# EAGLE library part ADA4096-4ACPZ-R7 (library ada4096-4)
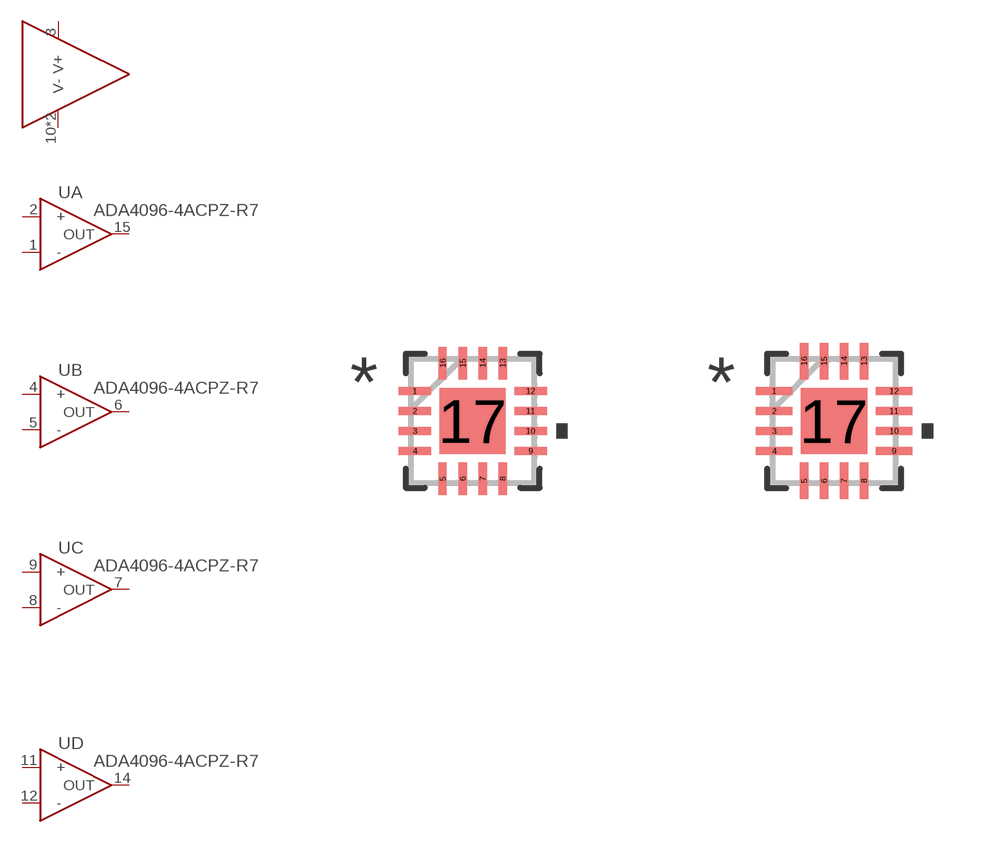
[diagram p0: symbol with the pads of CP_16_27; footprints CP_16_27, CP_16_27-M]

Designator prefix U; gates A=OP_AMP B=OP_AMP C=OP_AMP D=OP_AMP SUPPLY=OP_AMP_SUPPLY

## ADA4096-4ACPZ-R7 (MANUFACTURER_PART_NUMBER: ADA40964ACPZR7; VENDOR: Analog Devices Inc)  [CP_16_27]
1  A:-
2  A:+
3  SUPPLY:V+
4  B:+
5  B:-
6  B:OUT
7  C:OUT
8  C:-
9  C:+
10  SUPPLY:V-
11  D:+
12  D:-
14  D:OUT
15  A:OUT
17  SUPPLY:V-

## ADA4096-4ACPZ-R7CP_16_27-M (MANUFACTURER_PART_NUMBER: ADA40964ACPZR7; VENDOR: Analog Devices Inc)  [CP_16_27-M]

## ADA4096-4ACPZ-R7CP_16_27-L (MANUFACTURER_PART_NUMBER: ADA40964ACPZR7; VENDOR: Analog Devices Inc)  [CP_16_27-L]

## Footprint CP_16_27 (pad centres in mm)
smd 0.813 x 0.203: 1 -1.448,0.75; 2 -1.448,0.25; 3 -1.448,-0.25; 4 -1.448,-0.75; 9 1.448,-0.75; 10 1.448,-0.25; 11 1.448,0.25; 12 1.448,0.75
smd 0.203 x 0.813: 5 -0.75,-1.448; 6 -0.25,-1.448; 7 0.25,-1.448; 8 0.75,-1.448; 13 0.75,1.448; 14 0.25,1.448; 15 -0.25,1.448; 16 -0.75,1.448
smd 1.651 x 1.651: 17 0,0

## Footprint CP_16_27-M (pad centres in mm)
smd 0.914 x 0.203: 1 -1.499,0.75; 2 -1.499,0.25; 3 -1.499,-0.25; 4 -1.499,-0.75; 9 1.499,-0.75; 10 1.499,-0.25; 11 1.499,0.25; 12 1.499,0.75
smd 0.203 x 0.914: 5 -0.75,-1.499; 6 -0.25,-1.499; 7 0.25,-1.499; 8 0.75,-1.499; 13 0.75,1.499; 14 0.25,1.499; 15 -0.25,1.499; 16 -0.75,1.499
smd 1.651 x 1.651: 17 0,0

## Footprint CP_16_27-L (pad centres in mm)
smd 0.711 x 0.203: 1 -1.397,0.75; 2 -1.397,0.25; 3 -1.397,-0.25; 4 -1.397,-0.75; 9 1.397,-0.75; 10 1.397,-0.25; 11 1.397,0.25; 12 1.397,0.75
smd 0.203 x 0.711: 5 -0.75,-1.397; 6 -0.25,-1.397; 7 0.25,-1.397; 8 0.75,-1.397; 13 0.75,1.397; 14 0.25,1.397; 15 -0.25,1.397; 16 -0.75,1.397
smd 1.651 x 1.651: 17 0,0